# EAGLE library part TFM-110-02-L-D-A (library C3-Connector)
SAMTEC 10x2 SMT 50mil HEADER 10 Pins, 2 Rows, SMT, 15µ" Gold on Post TFM Series Catalog Page (EN) <http://www.samtec.com/documents/webfiles/pdf/TFM.PDF>
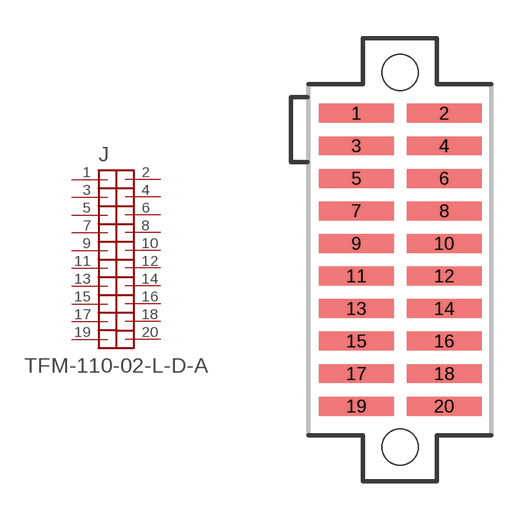
[diagram p10: symbol with the pads of SAMTEC_TFM-110-02-L-D-A; footprint SAMTEC_TFM-110-02-L-D-A]

Designator prefix J

## TFM-110-02-L-D-A  [SAMTEC_TFM-110-02-L-D-A]
1  1  pas
2  2  pas
3  3  pas
4  4  pas
5  5  pas
6  6  pas
7  7  pas
8  8  pas
9  9  pas
10  10  pas
11  11  pas
12  12  pas
13  13  pas
14  14  pas
15  15  pas
16  16  pas
17  17  pas
18  18  pas
19  19  pas
20  20  pas

## Footprint SAMTEC_TFM-110-02-L-D-A (pad centres in mm)
SAMTEC 10x2 SMT 50mil HEADER 10 Pins, 2 Rows, SMT, 15µ" Gold on Post TFM Series Catalog Page (EN) <http://www.samtec.com/documents/webfiles/pdf/TFM.PDF> TFM Footprint Drawing <http://www.samtec.com/documents/webfiles/cpdf/TFM-1XX-X2-XXX-D-XX-FOOTPRINT.pdf>
smd 2.921 x 0.737: 1 -1.714,5.715; 2 1.714,5.715; 3 -1.714,4.445; 4 1.714,4.445; 5 -1.714,3.175; 6 1.714,3.175; 7 -1.714,1.905; 8 1.714,1.905; 9 -1.714,0.635; 10 1.714,0.635; 11 -1.714,-0.635; 12 1.714,-0.635; 13 -1.714,-1.905; 14 1.714,-1.905; 15 -1.714,-3.175; 16 1.714,-3.175; 17 -1.714,-4.445; 18 1.714,-4.445; 19 -1.714,-5.715; 20 1.714,-5.715
hole 1.42 at 0,7.305
hole 1.42 at 0,-7.305